# Altium footprint library TRANS_STANDBAY.PcbLib: 1 footprints
Each footprint in its own frame and in the unit in brackets; x right, y up, seen from the top. Pads: shape width x height; smd on the part's side, far side on the other; paste and mask are expansions set on the pad; w line width, h text height; cw(c..) or ccw(c..) is an arc to the next point about the centre after c.
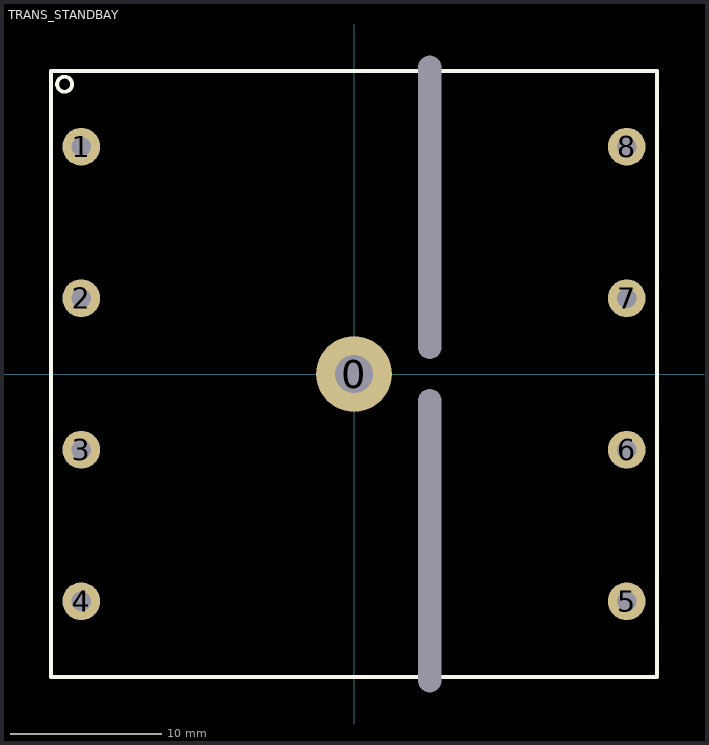
[diagram p0: the footprint, top view; thin cyan lines are the x and y axes]

## TRANS_STANDBAY [mm]
pads (11):
  round 5 hole 2.5 mask+0.7: 0(0,0)
  round 2.5 hole 1.27 mask+0.7: 1(-18,15) 2(-18,5) 3(-18,-5) 4(-18,-15) 5(18,-15) 6(18,-5) 7(18,5) 8(18,15)
  round 0 hole 1.5 slot 20 at 90 deg unplated: 19(5,11) 21(5,-11)
Top Overlay:
  circle w0.254: c-19.1,19.125 r0.496
  lines w0.254: -20,-20 20,-20 20,20 -20,20 -20,-20
Top Assembly:
  lines w0.254: -20,-20 20,-20 20,20 -20,20 -20,-20
  text "'.Designator'" at 0,0 h0.7
3D body "111.STEP": height 13.75, standoff -7.35, extent -24.45,-13.82 18.837,13.82